# EAGLE library part RASPBERRY-PI-CM4 (library Module)
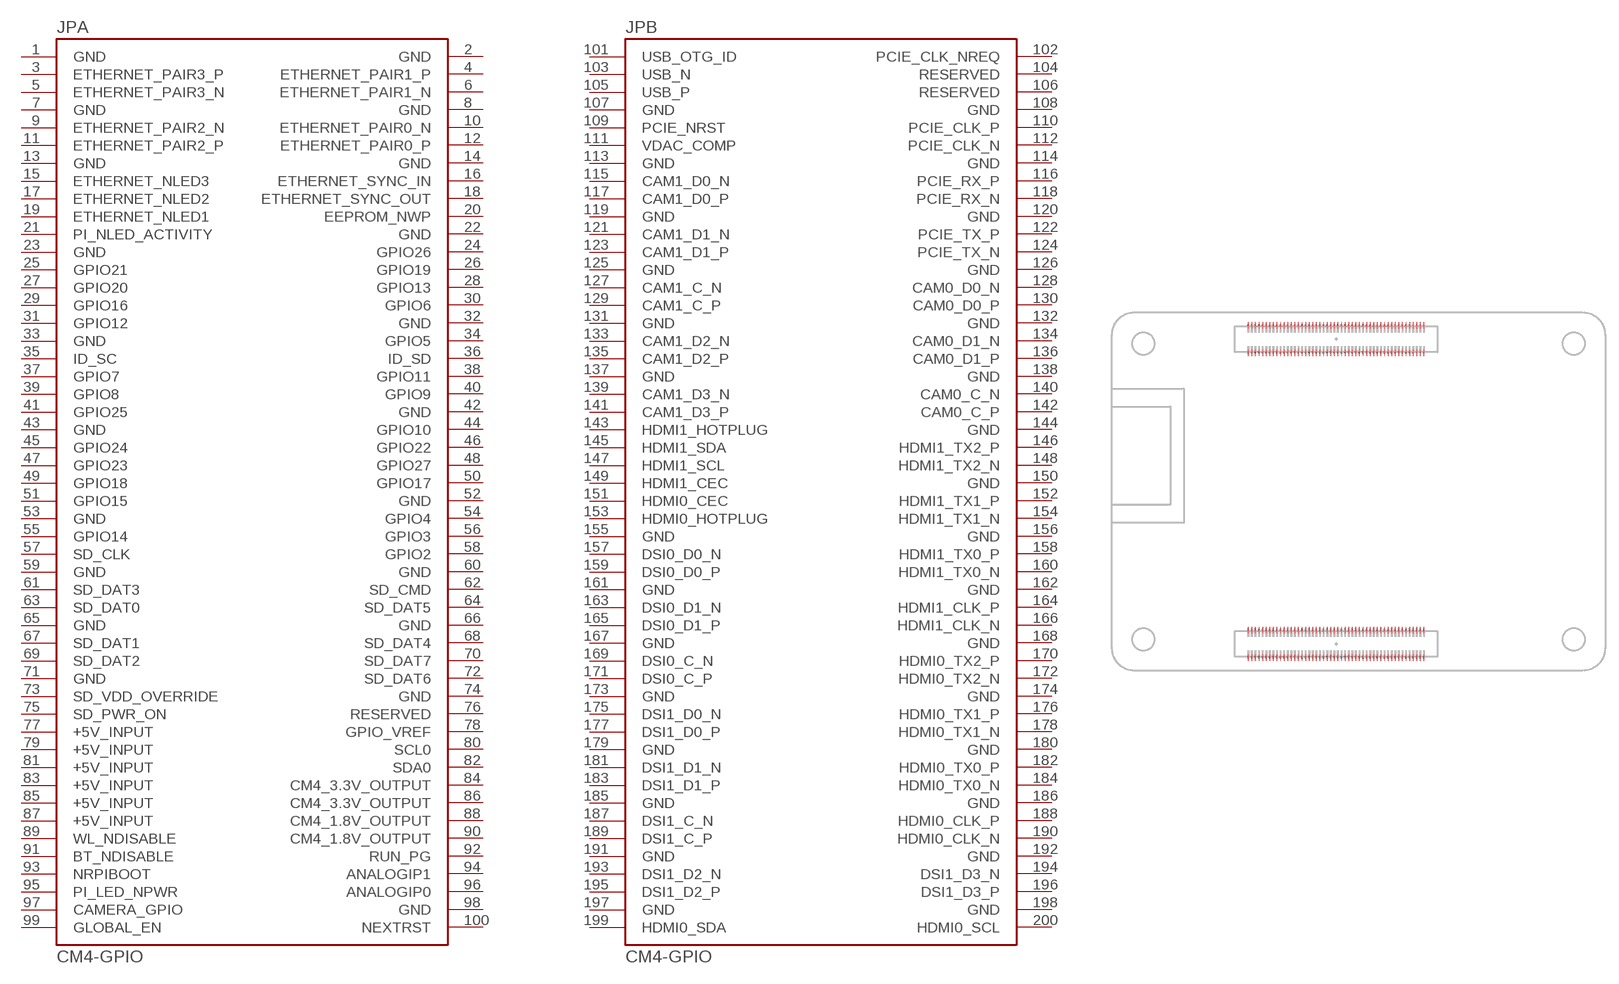
[diagram p21: symbol with the pads of RASPBERRY-PI-CM4; footprint RASPBERRY-PI-CM4]

Designator prefix JP; gates A=RASPBERRY-PI-CM4-GPIO B=RASPBERRY-PI-CM4-HIGHSPEED

## RASPBERRY-PI-CM4  [RASPBERRY-PI-CM4]
1  A:GND
2  A:GND
3  A:ETHERNET_PAIR3_P
4  A:ETHERNET_PAIR1_P
5  A:ETHERNET_PAIR3_N
6  A:ETHERNET_PAIR1_N
7  A:GND
8  A:GND
9  A:ETHERNET_PAIR2_N
10  A:ETHERNET_PAIR0_N
11  A:ETHERNET_PAIR2_P
12  A:ETHERNET_PAIR0_P
13  A:GND
14  A:GND
15  A:ETHERNET_NLED3
16  A:ETHERNET_SYNC_IN
17  A:ETHERNET_NLED2
18  A:ETHERNET_SYNC_OUT
19  A:ETHERNET_NLED1
20  A:EEPROM_NWP
21  A:PI_NLED_ACTIVITY
22  A:GND
23  A:GND
24  A:GPIO26
25  A:GPIO21
26  A:GPIO19
27  A:GPIO20
28  A:GPIO13
29  A:GPIO16
30  A:GPIO6
31  A:GPIO12
32  A:GND
33  A:GND
34  A:GPIO5
35  A:ID_SC
36  A:ID_SD
37  A:GPIO7
38  A:GPIO11
39  A:GPIO8
40  A:GPIO9
41  A:GPIO25
42  A:GND
43  A:GND
44  A:GPIO10
45  A:GPIO24
46  A:GPIO22
47  A:GPIO23
48  A:GPIO27
49  A:GPIO18
50  A:GPIO17
51  A:GPIO15
52  A:GND
53  A:GND
54  A:GPIO4
55  A:GPIO14
56  A:GPIO3
57  A:SD_CLK
58  A:GPIO2
59  A:GND
60  A:GND
61  A:SD_DAT3
62  A:SD_CMD
63  A:SD_DAT0
64  A:SD_DAT5
65  A:GND
66  A:GND
67  A:SD_DAT1
68  A:SD_DAT4
69  A:SD_DAT2
70  A:SD_DAT7
71  A:GND
72  A:SD_DAT6
73  A:SD_VDD_OVERRIDE
74  A:GND
75  A:SD_PWR_ON
76  A:RESERVED
77  A:+5V_INPUT
78  A:GPIO_VREF
79  A:+5V_INPUT
80  A:SCL0
81  A:+5V_INPUT
82  A:SDA0
83  A:+5V_INPUT
84  A:CM4_3.3V_OUTPUT
85  A:+5V_INPUT
86  A:CM4_3.3V_OUTPUT
87  A:+5V_INPUT
88  A:CM4_1.8V_OUTPUT
89  A:WL_NDISABLE
90  A:CM4_1.8V_OUTPUT
91  A:BT_NDISABLE
92  A:RUN_PG
93  A:NRPIBOOT
94  A:ANALOGIP1
95  A:PI_LED_NPWR
96  A:ANALOGIP0
97  A:CAMERA_GPIO
98  A:GND
99  A:GLOBAL_EN
100  A:NEXTRST
101  B:USB_OTG_ID
102  B:PCIE_CLK_NREQ
103  B:USB_N
104  B:RESERVED
105  B:USB_P
106  B:RESERVED
107  B:GND
108  B:GND
109  B:PCIE_NRST
110  B:PCIE_CLK_P
111  B:VDAC_COMP
112  B:PCIE_CLK_N
113  B:GND
114  B:GND
115  B:CAM1_D0_N
116  B:PCIE_RX_P
117  B:CAM1_D0_P
118  B:PCIE_RX_N
119  B:GND
120  B:GND
121  B:CAM1_D1_N
122  B:PCIE_TX_P
123  B:CAM1_D1_P
124  B:PCIE_TX_N
125  B:GND
126  B:GND
127  B:CAM1_C_N
128  B:CAM0_D0_N
129  B:CAM1_C_P
130  B:CAM0_D0_P
131  B:GND
132  B:GND
133  B:CAM1_D2_N
134  B:CAM0_D1_N
135  B:CAM1_D2_P
136  B:CAM0_D1_P
137  B:GND
138  B:GND
139  B:CAM1_D3_N
140  B:CAM0_C_N
141  B:CAM1_D3_P
142  B:CAM0_C_P
143  B:HDMI1_HOTPLUG
144  B:GND
145  B:HDMI1_SDA
146  B:HDMI1_TX2_P
147  B:HDMI1_SCL
148  B:HDMI1_TX2_N
149  B:HDMI1_CEC
150  B:GND
151  B:HDMI0_CEC
152  B:HDMI1_TX1_P
153  B:HDMI0_HOTPLUG
154  B:HDMI1_TX1_N
155  B:GND
156  B:GND
157  B:DSI0_D0_N
158  B:HDMI1_TX0_P
159  B:DSI0_D0_P
160  B:HDMI1_TX0_N
161  B:GND
162  B:GND
163  B:DSI0_D1_N
164  B:HDMI1_CLK_P
165  B:DSI0_D1_P
166  B:HDMI1_CLK_N
167  B:GND
168  B:GND
169  B:DSI0_C_N
170  B:HDMI0_TX2_P
171  B:DSI0_C_P
172  B:HDMI0_TX2_N
173  B:GND
174  B:GND
175  B:DSI1_D0_N
176  B:HDMI0_TX1_P
177  B:DSI1_D0_P
178  B:HDMI0_TX1_N
179  B:GND
180  B:GND
181  B:DSI1_D1_N
182  B:HDMI0_TX0_P
183  B:DSI1_D1_P
184  B:HDMI0_TX0_N
185  B:GND
186  B:GND
187  B:DSI1_C_N
188  B:HDMI0_CLK_P
189  B:DSI1_C_P
190  B:HDMI0_CLK_N
191  B:GND
192  B:GND
193  B:DSI1_D2_N
194  B:DSI1_D3_N
195  B:DSI1_D2_P
196  B:DSI1_D3_P
197  B:GND
198  B:GND
199  B:HDMI0_SDA
200  B:HDMI0_SCL

## Footprint RASPBERRY-PI-CM4 (pad centres in mm)
Raspberry Pi Compute Module 4
smd 0.2 x 0.7: 1 7.3,18.54; 2 7.3,15.46; 3 6.9,18.54; 4 6.9,15.46; 5 6.5,18.54; 6 6.5,15.46; 7 6.1,18.54; 8 6.1,15.46; 9 5.7,18.54; 10 5.7,15.46; 11 5.3,18.54; 12 5.3,15.46; 13 4.9,18.54; 14 4.9,15.46; 15 4.5,18.54; 16 4.5,15.46; 17 4.1,18.54; 18 4.1,15.46; 19 3.7,18.54; 20 3.7,15.46; 21 3.3,18.54; 22 3.3,15.46; 23 2.9,18.54; 24 2.9,15.46; 25 2.5,18.54; 26 2.5,15.46; 27 2.1,18.54; 28 2.1,15.46; 29 1.7,18.54; 30 1.7,15.46; 31 1.3,18.54; 32 1.3,15.46; 33 0.9,18.54; 34 0.9,15.46; 35 0.5,18.54; 36 0.5,15.46; 37 0.1,18.54; 38 0.1,15.46; 39 -0.3,18.54; 40 -0.3,15.46; 41 -0.7,18.54; 42 -0.7,15.46; 43 -1.1,18.54; 44 -1.1,15.46; 45 -1.5,18.54; 46 -1.5,15.46; 47 -1.9,18.54; 48 -1.9,15.46; 49 -2.3,18.54; 50 -2.3,15.46; 51 -2.7,18.54; 52 -2.7,15.46; 53 -3.1,18.54; 54 -3.1,15.46; 55 -3.5,18.54; 56 -3.5,15.46; 57 -3.9,18.54; 58 -3.9,15.46; 59 -4.3,18.54; 60 -4.3,15.46; 61 -4.7,18.54; 62 -4.7,15.46; 63 -5.1,18.54; 64 -5.1,15.46; 65 -5.5,18.54; 66 -5.5,15.46; 67 -5.9,18.54; 68 -5.9,15.46; 69 -6.3,18.54; 70 -6.3,15.46; 71 -6.7,18.54; 72 -6.7,15.46; 73 -7.1,18.54; 74 -7.1,15.46; 75 -7.5,18.54; 76 -7.5,15.46; 77 -7.9,18.54; 78 -7.9,15.46; 79 -8.3,18.54; 80 -8.3,15.46; 81 -8.7,18.54; 82 -8.7,15.46; 83 -9.1,18.54; 84 -9.1,15.46; 85 -9.5,18.54; 86 -9.5,15.46; 87 -9.9,18.54; 88 -9.9,15.46; 89 -10.3,18.54; 90 -10.3,15.46; 91 -10.7,18.54; 92 -10.7,15.46; 93 -11.1,18.54; 94 -11.1,15.46; 95 -11.5,18.54; 96 -11.5,15.46; 97 -11.9,18.54; 98 -11.9,15.46; 99 -12.3,18.54; 100 -12.3,15.46; 101 7.3,-15.46; 102 7.3,-18.54; 103 6.9,-15.46; 104 6.9,-18.54; 105 6.5,-15.46; 106 6.5,-18.54; 107 6.1,-15.46; 108 6.1,-18.54; 109 5.7,-15.46; 110 5.7,-18.54; 111 5.3,-15.46; 112 5.3,-18.54; 113 4.9,-15.46; 114 4.9,-18.54; 115 4.5,-15.46; 116 4.5,-18.54; 117 4.1,-15.46; 118 4.1,-18.54; 119 3.7,-15.46; 120 3.7,-18.54; 121 3.3,-15.46; 122 3.3,-18.54; 123 2.9,-15.46; 124 2.9,-18.54; 125 2.5,-15.46; 126 2.5,-18.54; 127 2.1,-15.46; 128 2.1,-18.54; 129 1.7,-15.46; 130 1.7,-18.54; 131 1.3,-15.46; 132 1.3,-18.54; 133 0.9,-15.46; 134 0.9,-18.54; 135 0.5,-15.46; 136 0.5,-18.54; 137 0.1,-15.46; 138 0.1,-18.54; 139 -0.3,-15.46; 140 -0.3,-18.54; 141 -0.7,-15.46; 142 -0.7,-18.54; 143 -1.1,-15.46; 144 -1.1,-18.54; 145 -1.5,-15.46; 146 -1.5,-18.54; 147 -1.9,-15.46; 148 -1.9,-18.54; 149 -2.3,-15.46; 150 -2.3,-18.54; 151 -2.7,-15.46; 152 -2.7,-18.54; 153 -3.1,-15.46; 154 -3.1,-18.54; 155 -3.5,-15.46; 156 -3.5,-18.54; 157 -3.9,-15.46; 158 -3.9,-18.54; 159 -4.3,-15.46; 160 -4.3,-18.54; 161 -4.7,-15.46; 162 -4.7,-18.54; 163 -5.1,-15.46; 164 -5.1,-18.54; 165 -5.5,-15.46; 166 -5.5,-18.54; 167 -5.9,-15.46; 168 -5.9,-18.54; 169 -6.3,-15.46; 170 -6.3,-18.54; 171 -6.7,-15.46; 172 -6.7,-18.54; 173 -7.1,-15.46; 174 -7.1,-18.54; 175 -7.5,-15.46; 176 -7.5,-18.54; 177 -7.9,-15.46; 178 -7.9,-18.54; 179 -8.3,-15.46; 180 -8.3,-18.54; 181 -8.7,-15.46; 182 -8.7,-18.54; 183 -9.1,-15.46; 184 -9.1,-18.54; 185 -9.5,-15.46; 186 -9.5,-18.54; 187 -9.9,-15.46; 188 -9.9,-18.54; 189 -10.3,-15.46; 190 -10.3,-18.54; 191 -10.7,-15.46; 192 -10.7,-18.54; 193 -11.1,-15.46; 194 -11.1,-18.54; 195 -11.5,-15.46; 196 -11.5,-18.54; 197 -11.9,-15.46; 198 -11.9,-18.54; 199 -12.3,-15.46; 200 -12.3,-18.54